# Altium integrated library ESP8266-01_ESP-01.IntLib: 1 symbol
Pins are listed as number, name and electrical type; pins without a type are passive.

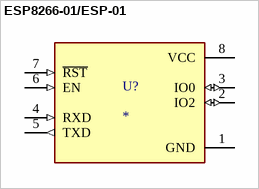
[diagram p0: symbol ESP8266-01/ESP-01]

## ESP8266-01/ESP-01
designator U?
MakerFocus 4pcs ESP8266 ESP-01 Serial Wireless WiFi Transceiver Receiver Module 1MB SPI Flash DC3.0-3.6V Internet of Things WiFi Module Board Compatible with Ar duino; MF: AI-Thinker; MP: ESP8266-01/ESP-01; SnapEDA_Link: https://www.snapeda.com/parts/ESP8266-01/ESP-01/AI-Thinker/view-part/?ref=snap; Availability: Not in stock; Price: None; Package: Non-Standard AI-Thinker; Check_prices: https://www.snapeda.com/parts/ESP8266-01/ESP-01/AI-Thinker/view-part/?ref=eda; Value: *
footprint XCVR_ESP8266-01/ESP-01
pins: 1 GND (power), 2 IO2 (io), 3 IO0 (io), 4 RXD (in), 5 TXD (out), 6 EN (in), 7 ~{RST} (in), 8 VCC (power)